# EAGLE library part ATOM_IR (library futz)
AtomIR (18F14K50)
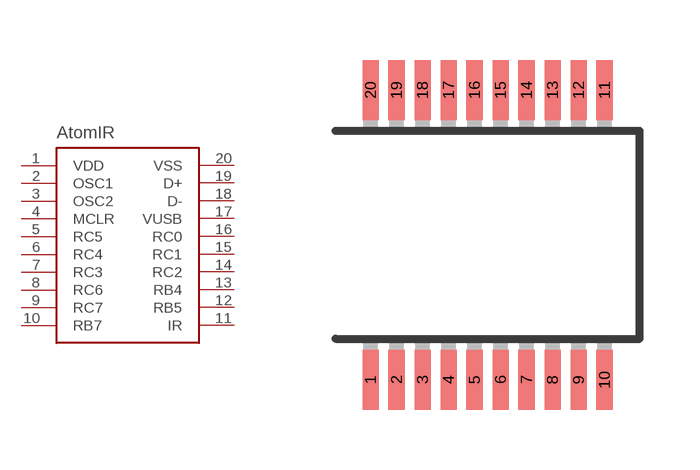
[diagram p17: symbol with the pads of SSOP20; footprint SSOP20]

Designator prefix -

## ATOM_IR  [SSOP20]
1  VDD  in
2  OSC1  in
3  OSC2  in
4  MCLR  in
5  RC5  in
6  RC4  in
7  RC3  in
8  RC6  in
9  RC7  in
10  RB7  in
11  IR  in
12  RB5  in
13  RB4  in
14  RC2  in
15  RC1  in
16  RC0  in
17  VUSB  in
18  D-  in
19  D+  in
20  VSS  in

## Footprint SSOP20 (pad centres in mm)
smd 0.4 x 1.5: 1 -2.925,-3.625; 2 -2.275,-3.625; 3 -1.625,-3.625; 4 -0.975,-3.625; 5 -0.325,-3.625; 6 0.325,-3.625; 7 0.975,-3.625; 8 1.625,-3.625; 9 2.275,-3.625; 10 2.925,-3.625; 11 2.925,3.625; 12 2.275,3.625; 13 1.625,3.625; 14 0.975,3.625; 15 0.325,3.625; 16 -0.325,3.625; 17 -0.975,3.625; 18 -1.625,3.625; 19 -2.275,3.625; 20 -2.925,3.625